# Altium footprint library Stamp_C6LoRa_SMD.PcbLib: 1 footprints
Each footprint in its own frame and in the unit in brackets; x right, y up, seen from the top. Pads: shape width x height; smd on the part's side, far side on the other; paste and mask are expansions set on the pad; w line width, h text height; cw(c..) or ccw(c..) is an arc to the next point about the centre after c.
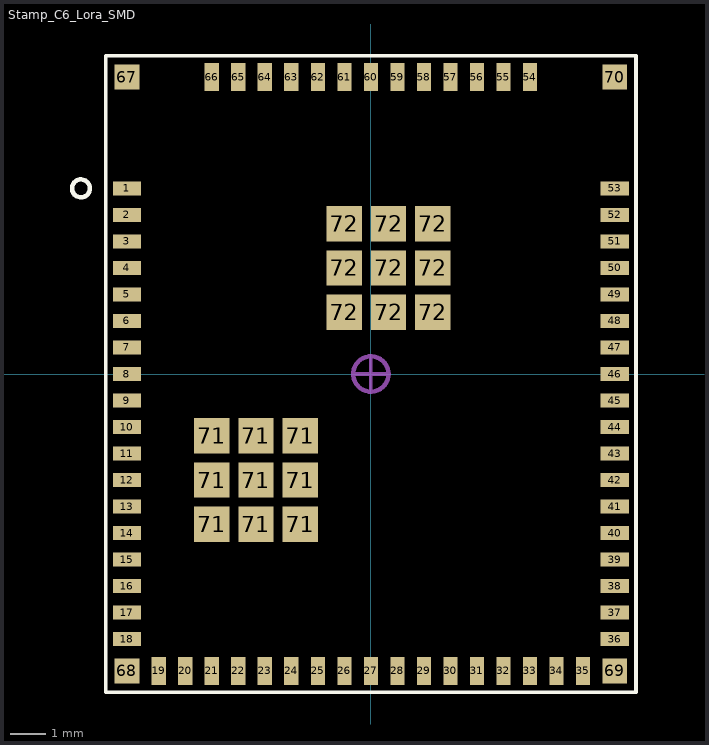
[diagram p0: the footprint, top view; thin cyan lines are the x and y axes]

## Stamp_C6_Lora_SMD [mm]
pads (88):
  rect 0.8x0.4 smd mask+0: 1(-6.9,5.25) 2(-6.9,4.5) 3(-6.9,3.75) 4(-6.9,3) 5(-6.9,2.25) 6(-6.9,1.5) 7(-6.9,0.75) 8(-6.9,0) 9(-6.9,-0.75) 10(-6.9,-1.5) 11(-6.9,-2.25) 12(-6.9,-3) 13(-6.9,-3.75) 14(-6.9,-4.5) 15(-6.9,-5.25) 16(-6.9,-6) 17(-6.9,-6.75) 18(-6.9,-7.5) 36(6.9,-7.5) 37(6.9,-6.75) 38(6.9,-6) 39(6.9,-5.25) 40(6.9,-4.5) 41(6.9,-3.75) 42(6.9,-3) 43(6.9,-2.25) 44(6.9,-1.5) 45(6.9,-0.75) 46(6.9,0) 47(6.9,0.75) 48(6.9,1.5) 49(6.9,2.25) 50(6.9,3) 51(6.9,3.75) 52(6.9,4.5) 53(6.9,5.25)
  rect 0.4x0.8 smd mask+0: 19(-6,-8.4) 20(-5.25,-8.4) 21(-4.5,-8.4) 22(-3.75,-8.4) 23(-3,-8.4) 24(-2.25,-8.4) 25(-1.5,-8.4) 26(-0.75,-8.4) 27(0,-8.4) 28(0.75,-8.4) 29(1.5,-8.4) 30(2.25,-8.4) 31(3,-8.4) 32(3.75,-8.4) 33(4.5,-8.4) 34(5.25,-8.4) 35(6,-8.4) 54(4.5,8.4) 55(3.75,8.4) 56(3,8.4) 57(2.25,8.4) 58(1.5,8.4) 59(0.75,8.4) 60(0,8.4) 61(-0.75,8.4) 62(-1.5,8.4) 63(-2.25,8.4) 64(-3,8.4) 65(-3.75,8.4) 66(-4.5,8.4)
  rect 0.7x0.7 smd mask+0.051: 67(-6.9,8.4) 68(-6.9,-8.4) 69(6.9,-8.4) 70(6.9,8.4)
  rect 1x1 smd mask+0.051: 71(-4.5,-4.25) 71(-4.5,-3) 71(-4.5,-1.75) 71(-3.25,-3) 71(-3.25,-1.75) 71(-3.25,-4.25) 71(-2,-4.25) 71(-2,-3) 71(-2,-1.75) 72(-0.75,1.75) 72(-0.75,3) 72(-0.75,4.25) 72(0.5,1.75) 72(0.5,3) 72(0.5,4.25) 72(1.75,3) 72(1.75,4.25) 72(1.75,1.75)
Top Overlay:
  circle w0.127: c-8.2,5.25 r0.254
  lines w0.1: -7.5,-9 7.5,-9 7.5,9 -7.5,9 -7.5,-9
Mechanical 15:
  circle w0.127: c0,0 r0.5
  lines w0.1: -0.5,0 0.5,0 ; 0,-0.5 0,0.5
3D body "M5_C6_Lora_3D.step": height 1.8, standoff -0.03, extent -7.5,-9 7.5,9